# Altium footprint library Thrust-Lib.PcbLib: 18 footprints (part 1 of 2)
Each footprint in its own frame and in the unit in brackets; x right, y up, seen from the top. Pads: shape width x height; smd on the part's side, far side on the other; paste and mask are expansions set on the pad; w line width, h text height; cw(c..) or ccw(c..) is an arc to the next point about the centre after c.
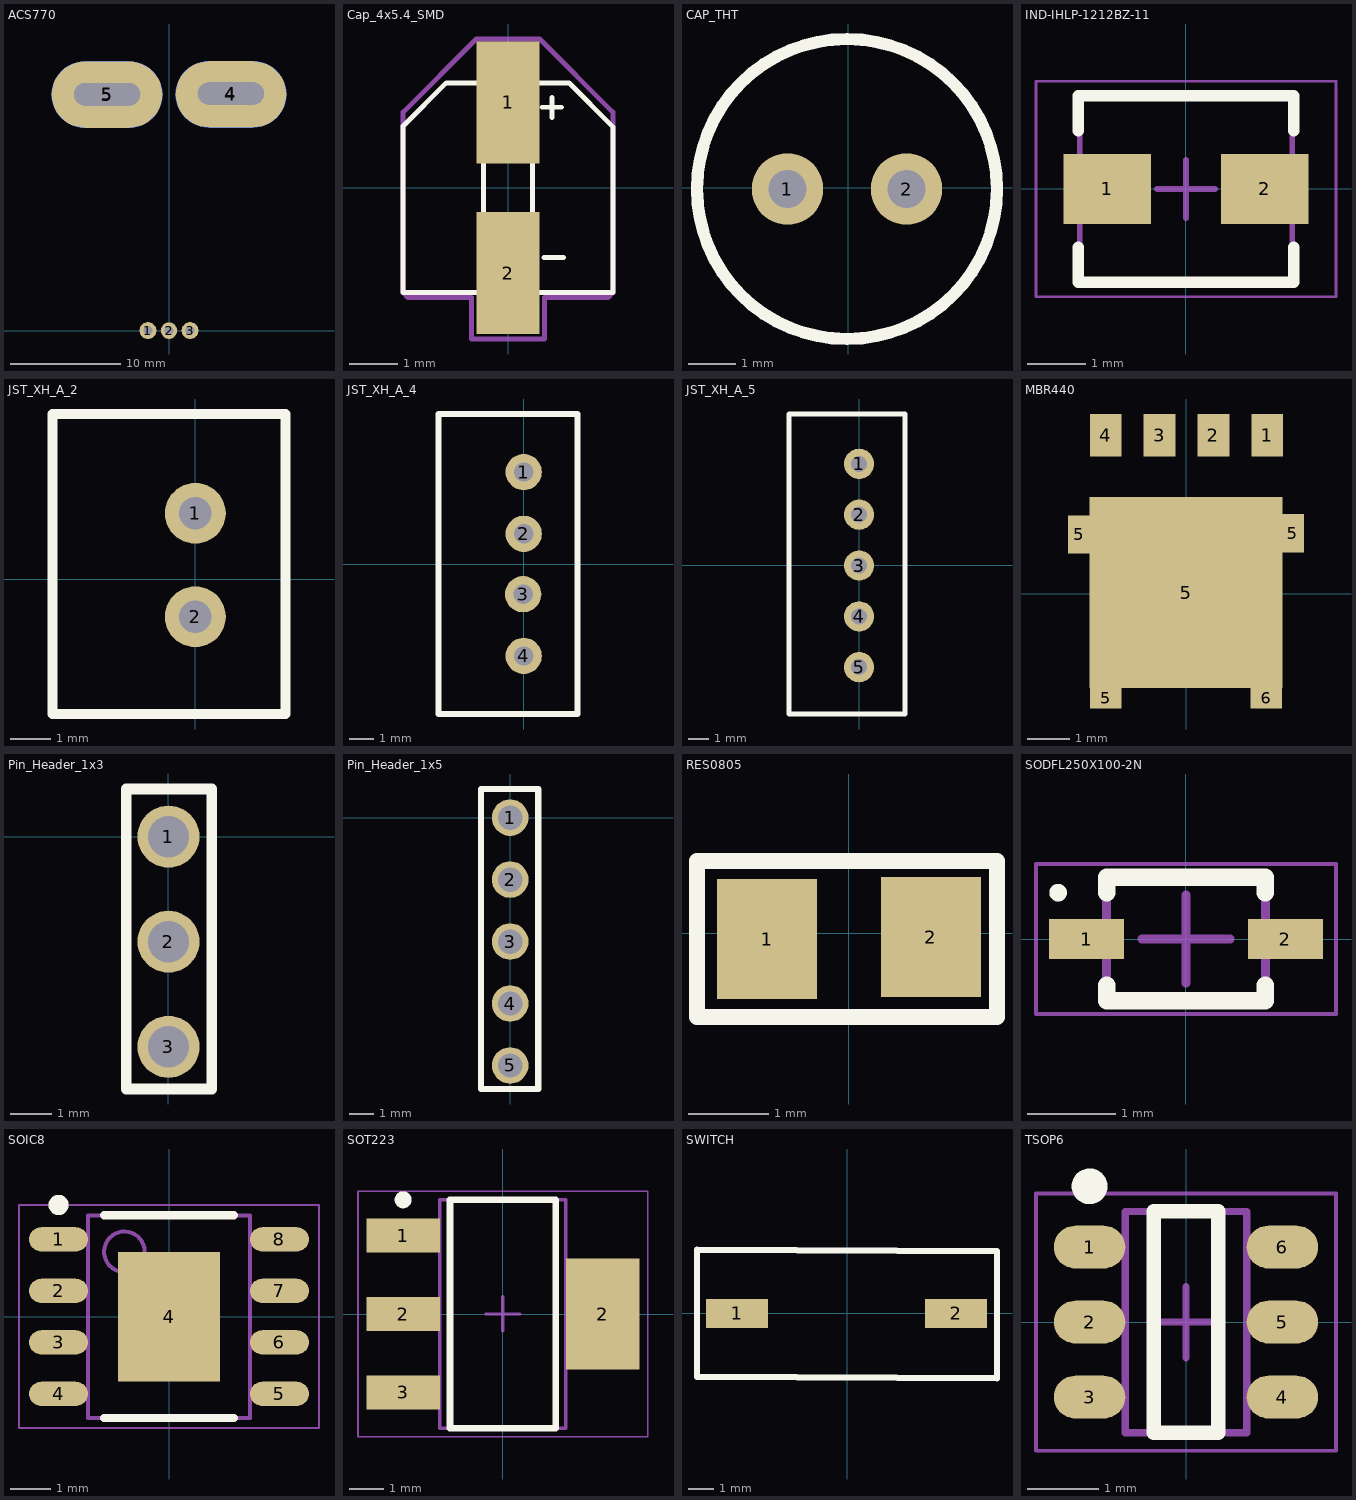
[diagram p0: the footprints below, top view; thin cyan lines are the x and y axes]

## ACS770 [mm]
pads (9):
  round 1.524 hole 0.8: 1(-1.9,0) 3(1.9,0)
  round 1.5 hole 0.8: 2(0,0)
  rrect100% 10x6 smd: 4(5.6,21.35) 5(-5.6,21.325)
  rrect100% 10x6 smd far side: 4(5.6,21.35) 5(-5.6,21.325)
  rrect100% 5.97x2.043 hole 2.043 slot 5.97 at 0 deg: 4(5.6,21.42) 5(-5.6,21.35)

## Cap_4x5.4_SMD [mm]
pads (2):
  rect 1.3x2.5 smd mask+0.05: 1(0,1.75) 2(0,-1.75)
Top Layer:
  pour cut-out: -1.65,0.95
Top Overlay:
  lines w0.1: 0.7,1.65 1.1,1.65 ; 0.736,-1.433 1.136,-1.433 ; 0.899,1.855 0.9,1.443 ; -2.15,-2.15 -2.15,1.266 -1.266,2.15 -0.5,2.15 -0.5,-2.15 -2.15,-2.15 ; 0.5,-2.15 2.15,-2.15 2.15,1.25 1.25,2.15 0.5,2.15 0.5,-2.15
Mechanical 13:
  lines w0.1: -2.15,-2.15 -2.05,-2.25 -0.75,-2.25 -0.75,-3.1 0.75,-3.1 0.75,-2.25 2.05,-2.25 2.15,-2.15 2.15,1.55 0.65,3.05 -0.65,3.05 -2.15,1.55 -2.15,-2.15
3D body "CAP SMD SVP 4_0x5_4.STEP": height 5.4, standoff 0, extent -2.15,-2.5 2.15,2.5

## CAP_THT [mm]
pads (2):
  round 1.5 hole 0.8: 1(-1.275,-0.025) 2(1.225,-0.025)
Top Overlay:
  circle w0.254: c-0.025,-0.025 r3.15

## IND-IHLP-1212BZ-11 [mm] "Molded Inductor, 2-Leads, Body 3.33x3.00mm, IPC Medium Density"
height 2
pads (2):
  rect 1.5x1.2 smd: 1(-1.35,0) 2(1.35,0)
Top Overlay:
  lines w0.2: -1.85,-1 -1.85,-1.6 1.85,-1.6 1.85,-1 ; -1.85,1 -1.85,1.6 1.85,1.6 1.85,1
Mechanical 13:
  lines w0.1: -1.825,-1.6 1.825,-1.6 1.825,1.6 -1.825,1.6 -1.825,-1.6
Mechanical 15:
  lines w0.05: -2.575,-1.85 2.575,-1.85 2.575,1.85 -2.575,1.85 -2.575,-1.85
  lines w0.1: -0.5,0 0.5,0 ; 0,-0.5 0,0.5
3D body "IND-IHLP-1212BZ-11.step": height 2, standoff 0, extent -2.045,-1.6 2.045,1.6

## JST_XH_A_2 [mm]
pads (2):
  round 1.5 hole 0.8: 1(0,1.625) 2(0,-0.925)
Top Overlay:
  lines w0.254: -3.525,-3.325 2.225,-3.325 2.225,4.075 -3.525,4.075 -3.525,-3.325

## JST_XH_A_4 [mm]
pads (4):
  round 1.5 hole 0.8: 1(0,3.8) 2(0,1.25) 3(-0.025,-1.25) 4(0,-3.8)
Top Overlay:
  lines w0.254: -3.525,-6.2 -3.525,6.2 2.225,6.2 2.225,-6.2 -3.525,-6.2

## JST_XH_A_5 [mm]
pads (5):
  round 1.5 hole 0.8: 1(0,5.025) 2(0,2.5) 3(0,-0.025) 4(0,-2.55) 5(0,-5.075)
Top Overlay:
  lines w0.254: -3.475,-7.4 -3.475,7.5 2.275,7.5 2.275,-7.4 -3.475,-7.4

## MBR440 [mm]
pads (9):
  rect 0.75x1 smd: 1(1.925,3.75) 2(0.65,3.75) 3(-0.625,3.75) 4(-1.9,3.75)
  rect 0.524x0.905 smd: 5(-2.525,1.4) 5(2.525,1.425)
  rect 0.75x0.5 smd: 5(-1.9,-2.475) 6(1.9,-2.475)
  rect 4.56x4.53 smd: 5(0,0.025)

## Pin_Header_1x3 [mm]
pads (3):
  round 1.5 hole 1: 1(0,0) 2(0,-2.54) 3(0,-5.08)
Top Overlay:
  lines w0.254: -1.025,-6.1 -1.025,1.15 1.05,1.15 1.05,-6.1 -1.025,-6.1

## Pin_Header_1x5 [mm]
pads (5):
  round 1.5 hole 1: 1(0,0) 2(0,-2.54) 3(0,-5.08) 4(0,-7.62) 5(0,-10.16)
Top Overlay:
  region: -1.325,1.1
  lines w0.254: -1.2,-11.125 -1.2,1.175 1.15,1.175 1.15,-11.125 -1.2,-11.125

## RES0805 [mm]
pads (2):
  rect 1.25x1.5 smd: 1(-1.025,-0.075) 2(1.025,-0.05)
Top Overlay:
  lines w0.2: -1.9,-1.05 1.85,-1.05 1.85,0.9 -1.9,0.9 -1.9,-1.05

## SODFL250X100-2N [mm] "SODFL, 2-Leads, Body 1.25x2.50mm, IPC Medium Density"
height 1
pads (2):
  rect 0.85x0.45 smd: 1(-1.125,0) 2(1.125,0)
Top Overlay:
  circle w0.1: c-1.45,0.525 r0.05
  lines w0.2: -0.9,-0.525 -0.9,-0.7 0.9,-0.7 0.9,-0.525 ; -0.9,0.525 -0.9,0.7 0.9,0.7 0.9,0.525
Mechanical 13:
  lines w0.1: -0.9,-0.675 0.9,-0.675 0.9,0.675 -0.9,0.675 -0.9,-0.675
Mechanical 15:
  lines w0.05: -1.7,-0.85 1.7,-0.85 1.7,0.85 -1.7,0.85 -1.7,-0.85
  lines w0.1: -0.5,0 0.5,0 ; 0,-0.5 0,0.5
3D body "SODFL250X100-2N.step": height 1, standoff 0, extent -1.25,-0.675 1.25,0.675

## SOIC8 [mm] "SOIC, 8-Leads, Body 4.90x3.90mm, Pitch 1.27mm, Thermal Pad 3.20x2.51mm, IPC Medium Density"
height 1.75
pads (9):
  oval 1.45x0.6 smd: 1(-2.725,1.905) 2(-2.725,0.635) 3(-2.725,-0.635) 4(-2.725,-1.905) 5(2.725,-1.905) 6(2.725,-0.635) 7(2.725,0.635) 8(2.725,1.905)
  rect 2.51x3.2 smd: 4(0,0)
Top Overlay:
  circle w0.25: c-2.725,2.755 r0.125
  lines w0.2: -1.6,-2.5 1.6,-2.5 ; -1.6,2.5 1.6,2.5
Mechanical 13:
  circle w0.1: c-1.1,1.6 r0.5
  lines w0.1: -2,-2.5 2,-2.5 2,2.5 -2,2.5 -2,-2.5
Mechanical 15:
  lines w0.05: -3.7,-2.75 3.7,-2.75 3.7,2.75 -3.7,2.75 -3.7,-2.75
  lines w0.1: -0.5,0 0.5,0 ; 0,-0.5 0,0.5
3D body "SOIC8.step": height 1.75, standoff 0, extent -3,-2.5 3,2.5

## SOT223 [mm] "SOT223, 4-Leads, Body 6.50x7.00mm (avg), Pitch 2.30mm, IPC Medium Density"
height 1.8
pads (4):
  rect 2.15x1 smd: 1(-2.925,2.3) 2(-2.925,0) 3(-2.925,-2.3)
  rect 2.15x3.25 smd: 2(2.925,0)
Top Overlay:
  circle w0.25: c-2.925,3.35 r0.125
  lines w0.2: -1.55,-3.35 -1.55,3.35 1.55,3.35 1.55,-3.35 -1.55,-3.35
Mechanical 13:
  lines w0.1: -1.85,-3.35 -1.85,3.35 1.85,3.35 1.85,-3.35 -1.85,-3.35
Mechanical 15:
  lines w0.05: -4.25,-3.6 -4.25,3.6 4.25,3.6 4.25,-3.6 -4.25,-3.6
  lines w0.1: -0.5,0 0.5,0 ; 0,-0.5 0,0.5
3D body "SOT223.step": height 1.8, standoff 0, extent -3.5,-3.35 3.5,3.35

## SWITCH [mm]
pads (2):
  rect 2.43x1.14 smd: 1(-4.3,0) 2(4.275,0)
Top Overlay:
  lines w0.254: -5.875,-2.475 5.875,-2.55 5.875,2.43 -5.875,2.5 -5.875,-2.475

## TSOP6 [mm] "TSOP, 6-Leads, Body 3.00x1.50mm, Pitch 1.05mm, IPC Medium Density"
height 1.1
pads (6):
  oval 1x0.6 smd: 1(-1.35,1.05) 2(-1.35,0) 3(-1.35,-1.05) 4(1.35,-1.05) 5(1.35,0) 6(1.35,1.05)
Top Overlay:
  circle w0.25: c-1.35,1.9 r0.125
  lines w0.2: -0.45,-1.55 0.45,-1.55 0.45,1.55 -0.45,1.55 -0.45,-1.55
Mechanical 13:
  lines w0.1: -0.85,-1.55 0.85,-1.55 0.85,1.55 -0.85,1.55 -0.85,-1.55
Mechanical 15:
  lines w0.05: -2.1,-1.8 2.1,-1.8 2.1,1.8 -2.1,1.8 -2.1,-1.8
  lines w0.1: -0.5,0 0.5,0 ; 0,-0.5 0,0.5
3D body "TSOP6.step": height 1.1, standoff 0, extent -1.375,-1.55 1.375,1.55